# Altium schematic symbol library temperature-sensor.SchLib: 5 symbols
Pins are listed as number, name and electrical type; pins without a type are passive.

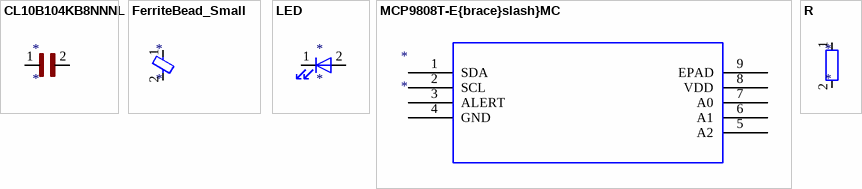
[diagram p0: symbols CL10B104KB8NNNL to R]

## CL10B104KB8NNNL
designator *
pins: 1, 2

## FerriteBead_Small
designator *
pins: 1, 2

## LED
designator *
pins: 1 K, 2 A

## MCP9808T-E{brace}slash}MC
designator *
pins: 1 SDA, 2 SCL, 3 ALERT, 4 GND, 5 A2, 6 A1, 7 A0, 8 VDD, 9 EPAD

## R
designator *
pins: 1, 2